# Altium schematic symbol library Components - 18.07.26 - 23.27.SchLib: 1 symbol
Pins are listed as number, name and electrical type; pins without a type are passive.

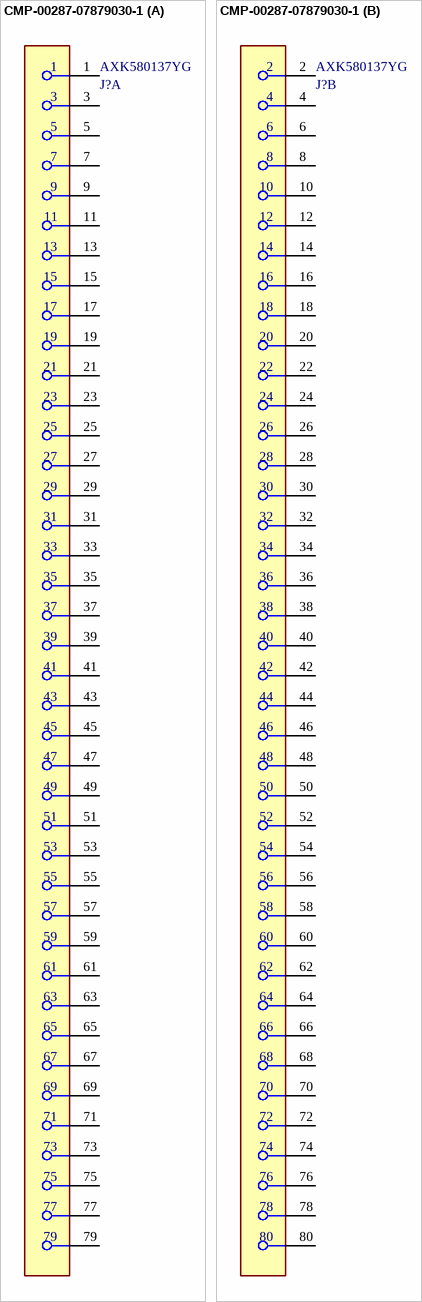
[diagram p0: symbol CMP-00287-07879030-1]

## CMP-00287-07879030-1
designator J?, comment AXK580137YG
AXK580137YG AXK5(P5K) Socket(0.5mm pitch, 80-pin, Ni-barrier) w/ positioning boss (RoHS conforming); NexarPartId: 7879030; Mated Stacking Heights: 3.5mm; Max Voltage Rating (DC): 6.06kV; Number of Contacts: 80; Current Rating: 500mA; Pitch: 500µm; Max Current Rating: 10A; Voltage Rating: 60V; Number of Rows: 2; Height: 2.55mm; Housing Material: Resin; Contact Material: Gold, Nickel; Connector Type: Socket; RoHS: Compliant; Min Operating Temperature: -55°C; Contact Plating: Gold; Packaging: Tape & Reel (TR); Max Operating Temperature: 85°C; Mount: Surface Mount; Ambient Temperature Range High: 85°C; Number of Positions: 80; Termination: SMD/SMT; Orientation: Straight
footprint FP-AXK580137YG-MFG
part A pins: 1, 3, 5, 7, 9, 11, 13, 15, 17, 19, 21, 23, 25, 27, 29, 31, 33, 35, 37, 39, 41, 43, 45, 47, 49, 51, 53, 55, 57, 59, 61, 63, 65, 67, 69, 71, 73, 75, 77, 79
part B pins: 2, 4, 6, 8, 10, 12, 14, 16, 18, 20, 22, 24, 26, 28, 30, 32, 34, 36, 38, 40, 42, 44, 46, 48, 50, 52, 54, 56, 58, 60, 62, 64, 66, 68, 70, 72, 74, 76, 78, 80